# Altium footprint library Inductors SMD.PcbLib: 75 footprints (part 3 of 5)
Each footprint in its own frame and in the unit in brackets; x right, y up, seen from the top. Pads: shape width x height; smd on the part's side, far side on the other; paste and mask are expansions set on the pad; w line width, h text height; cw(c..) or ccw(c..) is an arc to the next point about the centre after c.
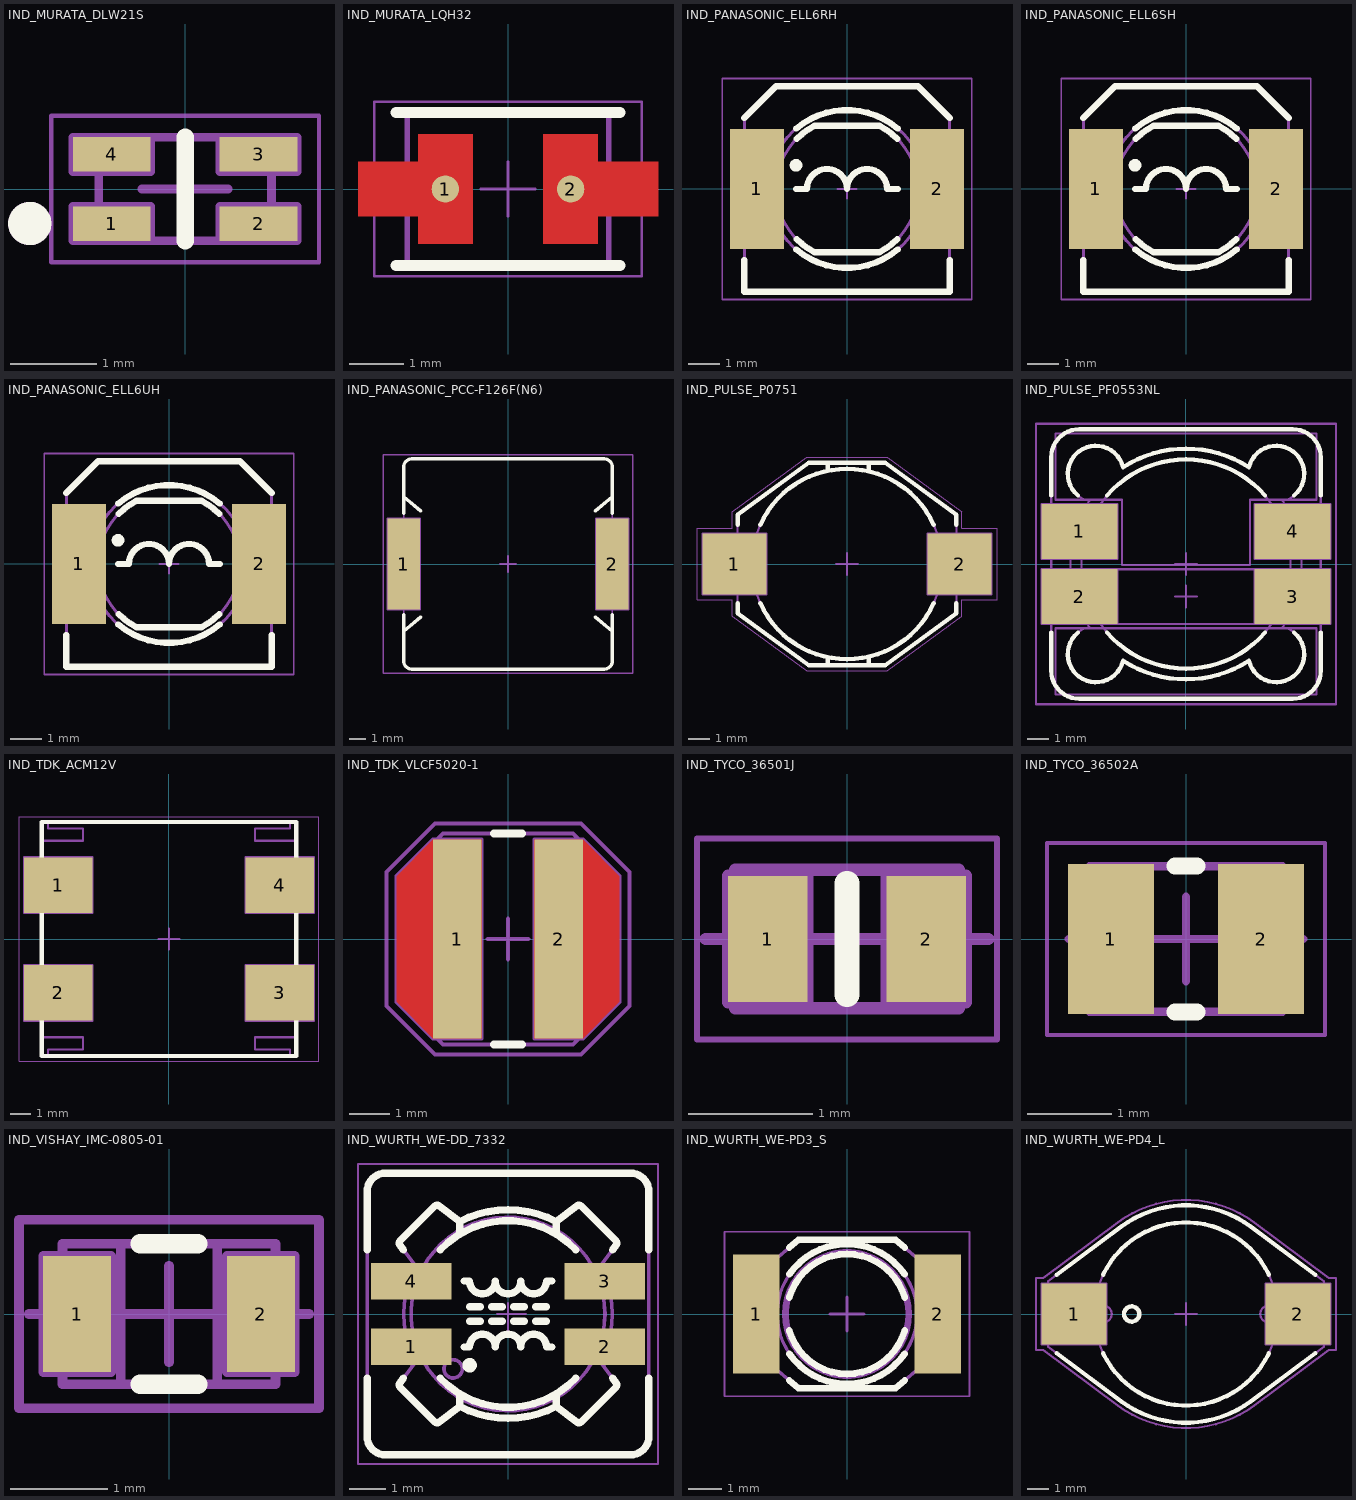
[diagram p2: the footprints below, top view; thin cyan lines are the x and y axes]

## IND_MURATA_DLW21S [mm] "Common Mode Choke Coil, DLW21S Series - Body 2 x 1.2mm"
height 1.4
pads (4):
  rect 0.9x0.4 smd: 1(-0.85,-0.4) 2(0.85,-0.4) 3(0.85,0.4) 4(-0.85,0.4)
Top Overlay:
  circle w0.25: c-1.8,-0.4 r0.125
  lines w0.2: 0,-0.6 0,0.6
Mechanical 8:
  lines w0.1: -0.5,0 0,0 ; 0,-0.5 0,0 ; 0,0.5 0,0 ; 0.5,0 0,0 ; -1.3,-0.6 -0.85,-0.4 -1.3,-0.2 ; -1.3,-0.6 -1.3,-0.2 ; -1.3,-0.6 -0.4,-0.6 -0.4,-0.2 -1.3,-0.2 ; -1.3,0.2 -0.85,0.4 -1.3,0.6 ; -1.3,0.2 -1.3,0.6 ; -1.3,0.2 -0.4,0.2 -0.4,0.6 -1.3,0.6 ; 1.3,-0.6 0.85,-0.4 1.3,-0.2 ; 1.3,-0.6 0.4,-0.6 0.4,-0.2 1.3,-0.2 ; 1.3,-0.6 1.3,-0.2 ; 1.3,-0.6 1.3,-0.2 ; 1.3,0.2 0.85,0.4 1.3,0.6 ; 1.3,0.2 0.4,0.2 0.4,0.6 1.3,0.6 ; 1.3,0.2 1.3,0.6 ; 1.3,0.2 1.3,0.6
Mechanical 14:
  circle w0.25: c-1.8,-0.4 r0.125
  lines w0.1: -1,-0.6 -1,0.6 1,0.6 1,-0.6 -1,-0.6
Mechanical 15:
  lines w0.05: -1.55,-0.85 -1.55,0.85 1.55,0.85 1.55,-0.85 -1.55,-0.85
3D body "IND_MURATA_DLW21S.stp": height 1.4, standoff 0, extent -1,-0.6 1,0.6

## IND_MURATA_LQH32 [mm] "Chip Inductor, 3.40mm L X 2.50mm W X 2.20mm H, MURATA LQH32 Serie"
height 2.2
pads (2):
  round 0.5 smd paste-0.26 mask-0.26: 1(-1.15,0) 2(1.15,0)
Top Layer:
  region: -2.75,-0.5 -1.65,-0.5 -1.65,-1 -0.65,-1 -0.65,1 -1.65,1 -1.65,0.5 -2.75,0.5
  region: 2.75,0.5 1.65,0.5 1.65,1 0.65,1 0.65,-1 1.65,-1 1.65,-0.5 2.75,-0.5
Top Overlay:
  lines w0.2: -2.05,-1.4 2.05,-1.4 ; -2.05,1.4 2.05,1.4
Mechanical 14:
  lines w0.1: -1.85,-1.35 1.85,-1.35 1.85,1.35 -1.85,1.35 -1.85,-1.35
Mechanical 15:
  lines w0.05: -0.5,0 0.5,0 ; 0,-0.5 0,0.5 ; -2.45,-1.6 2.45,-1.6 2.45,1.6 -2.45,1.6 -2.45,-1.6
3D body "IND_MURATA_LQH32.stp": height 2.2, standoff 0, extent -1.75,-1.25 1.75,1.25

## IND_PANASONIC_ELL6RH [mm] "SMD Choke Coil, Body 6.9x6.5mm"
height 2.8
pads (2):
  rect 1.7x3.8 smd: 1(-2.85,0) 2(2.85,0)
Top Overlay:
  circle w0.2: c-1.615,0.75 r0.1
  lines w0.2: -3.25,-2.25 -3.25,-3.25 3.25,-3.25 3.25,-2.25 ; -3.25,2.25 -2.25,3.25 2.25,3.25 3.25,2.25 ; -1.615,0 -1.27,0 cw(c-0.635,0) 0,0 cw(c0.635,0) 1.27,0 1.615,0 ; -1.607,-1.915 ccw(c0,0) 1.607,-1.915 ; -1.607,1.915 cw(c0,0) 1.607,1.915 ; -1.591,-1.591 ccw(c0,0) -1.031,-2 1.031,-2 ccw(c0,0) 1.591,-1.591 ; -1.591,1.591 cw(c0,0) -1.031,2 1.031,2 cw(c0,0) 1.591,1.591
Mechanical 14:
  circle w0.1: c0,0 r2.5
  lines w0.1: -3.25,-1.65 -3.45,-1.65 -3.45,1.65 -3.25,1.65 ; 3.25,-1.65 3.45,-1.65 3.45,1.65 3.25,1.65 ; -3.25,-3.25 -3.25,2.25 -2.25,3.25 2.25,3.25 3.25,2.25 3.25,-3.25 -3.25,-3.25 ; -1.031,-2 cw(c0,0) -1.031,2 1.031,2 cw(c0,0) 1.031,-2 -1.031,-2
Mechanical 15:
  lines w0.05: -0.3,0 0.3,0 ; 0,-0.3 0,0.3 ; -3.95,-3.5 -3.95,3.5 3.95,3.5 3.95,-3.5 -3.95,-3.5
3D body "IND_PANASONIC_ELL6RH.stp": height 2.8, standoff 0, extent -3.45,-3.25 3.45,3.25

## IND_PANASONIC_ELL6SH [mm] "SMD Choke Coil, Body 6.9x6.5mm"
height 3.3
pads (2):
  rect 1.7x3.8 smd: 1(-2.85,0) 2(2.85,0)
Top Overlay:
  circle w0.2: c-1.615,0.75 r0.1
  lines w0.2: -3.25,-2.25 -3.25,-3.25 3.25,-3.25 3.25,-2.25 ; -3.25,2.25 -2.25,3.25 2.25,3.25 3.25,2.25 ; -1.615,0 -1.27,0 cw(c-0.635,0) 0,0 cw(c0.635,0) 1.27,0 1.615,0 ; -1.607,-1.915 ccw(c0,0) 1.607,-1.915 ; -1.607,1.915 cw(c0,0) 1.607,1.915 ; -1.591,-1.591 ccw(c0,0) -1.031,-2 1.031,-2 ccw(c0,0) 1.591,-1.591 ; -1.591,1.591 cw(c0,0) -1.031,2 1.031,2 cw(c0,0) 1.591,1.591
Mechanical 14:
  circle w0.1: c0,0 r2.5
  lines w0.1: -3.25,-1.65 -3.45,-1.65 -3.45,1.65 -3.25,1.65 ; 3.25,-1.65 3.45,-1.65 3.45,1.65 3.25,1.65 ; -3.25,-3.25 -3.25,2.25 -2.25,3.25 2.25,3.25 3.25,2.25 3.25,-3.25 -3.25,-3.25 ; -1.031,-2 cw(c0,0) -1.031,2 1.031,2 cw(c0,0) 1.031,-2 -1.031,-2
Mechanical 15:
  lines w0.05: -0.3,0 0.3,0 ; 0,-0.3 0,0.3 ; -3.95,-3.5 -3.95,3.5 3.95,3.5 3.95,-3.5 -3.95,-3.5
3D body "IND_PANASONIC_ELL6SH.stp": height 3.3, standoff 0, extent -3.45,-3.25 3.45,3.25

## IND_PANASONIC_ELL6UH [mm] "SMD Choke Coil, Body 6.9x6.5mm"
height 5
pads (2):
  rect 1.7x3.8 smd: 1(-2.85,0) 2(2.85,0)
Top Overlay:
  circle w0.2: c-1.615,0.75 r0.1
  lines w0.2: -3.25,-2.25 -3.25,-3.25 3.25,-3.25 3.25,-2.25 ; -3.25,2.25 -2.25,3.25 2.25,3.25 3.25,2.25 ; -1.615,0 -1.27,0 cw(c-0.635,0) 0,0 cw(c0.635,0) 1.27,0 1.615,0 ; -1.607,-1.915 ccw(c0,0) 1.607,-1.915 ; -1.607,1.915 cw(c0,0) 1.607,1.915 ; -1.591,-1.591 ccw(c0,0) -1.031,-2 1.031,-2 ccw(c0,0) 1.591,-1.591 ; -1.591,1.591 cw(c0,0) -1.031,2 1.031,2 cw(c0,0) 1.591,1.591
Mechanical 14:
  circle w0.1: c0,0 r2.5
  lines w0.1: -3.25,-1.65 -3.45,-1.65 -3.45,1.65 -3.25,1.65 ; 3.25,-1.65 3.45,-1.65 3.45,1.65 3.25,1.65 ; -3.25,-3.25 3.25,-3.25 3.25,2.25 2.25,3.25 -2.25,3.25 -3.25,2.25 -3.25,-3.25 ; -1.031,-2 cw(c0,0) -1.031,2 1.031,2 cw(c0,0) 1.031,-2 -1.031,-2
Mechanical 15:
  lines w0.05: -0.3,0 0.3,0 ; 0,-0.3 0,0.3 ; -3.95,-3.5 3.95,-3.5 3.95,3.5 -3.95,3.5 -3.95,-3.5
3D body "IND_PANASONIC_ELL6UH.stp": height 5, standoff 0, extent -3.45,-3.25 3.45,3.25

## IND_PANASONIC_PCC-F126F(N6) [mm] "SMD Inductor  Body Width 12.5mm Body Lenght 12.5mm Height 5.7mm, PANASONIC PCC-F126(N6) Serie"
height 5.7
pads (2):
  rect 2x5.6 smd: 1(-6.4,0) 2(6.4,0)
Top Overlay:
  lines w0.2: -6.4,-4.125 -5.35,-3.25 ; -6.4,-3.1 -6.4,-5.95 ccw(c-5.9,-5.95) -5.9,-6.45 5.9,-6.45 ccw(c5.9,-5.95) 6.4,-5.95 6.4,-3.1 ; -6.4,3.1 -6.4,5.95 cw(c-5.9,5.95) -5.9,6.45 5.9,6.45 cw(c5.9,5.95) 6.4,5.95 6.4,3.1 ; -6.4,4.125 -5.35,3.25 ; 5.35,-3.25 6.4,-4.125 ; 5.35,3.25 6.4,4.125
Mechanical 8:
  lines w0.1: -6.9,0 -6.4,0 ; -6.4,-0.5 -6.4,0 ; -6.4,0.5 -6.4,0 ; -5.9,0 -6.4,0 ; -0.5,0 0,0 ; 0,-0.5 0,0 ; 0,0.5 0,0 ; 0.5,0 0,0 ; 5.9,0 6.4,0 ; 6.4,-0.5 6.4,0 ; 6.4,0.5 6.4,0 ; 6.9,0 6.4,0 ; -7.4,-2.8 -5.4,-2.8 -5.4,2.8 -7.4,2.8 -7.4,-2.8 ; 5.4,-2.8 7.4,-2.8 7.4,2.8 5.4,2.8 5.4,-2.8
Mechanical 14:
  lines w0.1: -6.4,-5.95 ccw(c-5.9,-5.95) -5.9,-6.45 5.9,-6.45 ccw(c5.9,-5.95) 6.4,-5.95 6.4,5.95 ccw(c5.9,5.95) 5.9,6.45 -5.9,6.45 ccw(c-5.9,5.95) -6.4,5.95 -6.4,-5.95
Mechanical 15:
  lines w0.1: -7.65,-6.7 -7.65,6.7 7.65,6.7 7.65,-6.7 -7.65,-6.7
3D body "IND_PANASONIC_PCC-F126F(N6).stp": height 5.7, standoff -0.3, extent -6.25,-6.25 6.25,6.25

## IND_PULSE_P0751 [mm] "SMD Power Inductor, Body Width 9.4mm Body Lenght 12.95mm Height 5.46mm, PULSE P0751/52NL Serie"
height 5.46
pads (2):
  rect 2.92x2.79 smd: 1(-5.145,0) 2(5.145,0)
Top Overlay:
  lines w0.2: -5,-1.795 -5,-2.25 -1.75,-4.625 1.75,-4.625 5,-2.25 5,-1.795 ; -5,1.795 -5,2.25 -1.75,4.625 1.75,4.625 5,2.25 5,1.795 ; -3.962,-1.795 ccw(c0,0) 3.962,-1.795 ; -3.962,1.795 cw(c0,0) 3.962,1.795 ; -0.886,-4.625 -0.886,-4.259 ; -0.886,4.259 -0.886,4.625 ; 0.999,-4.625 0.999,-4.234 ; 0.999,4.234 0.999,4.625
Mechanical 8:
  lines w0.1: -5.645,0 -5.145,0 ; -5.145,-0.5 -5.145,0 ; -5.145,0.5 -5.145,0 ; -4.645,0 -5.145,0 ; -0.5,0 0,0 ; 0,-0.5 0,0 ; 0,0.5 0,0 ; 0.5,0 0,0 ; 4.645,0 5.145,0 ; 5.145,-0.5 5.145,0 ; 5.145,0.5 5.145,0 ; 5.645,0 5.145,0 ; -6.605,-1.395 -6.605,1.395 -3.685,1.395 -3.685,-1.395 -6.605,-1.395 ; 3.685,-1.395 3.685,1.395 6.605,1.395 6.605,-1.395 3.685,-1.395
Mechanical 14:
  circle w0.1: c0,0 r4.35
  lines w0.1: -0.886,-4.625 -0.886,-4.259 ; -0.886,4.259 -0.886,4.625 ; 0.999,-4.625 0.999,-4.234 ; 0.999,4.234 0.999,4.625 ; -6.3,-1.25 -5,-1.25 -5,-2.25 -1.75,-4.625 1.75,-4.625 5,-2.25 5,-1.25 6.3,-1.25 6.3,1.25 5,1.25 5,2.25 1.75,4.625 -1.75,4.625 -5,2.25 -5,1.25 -6.3,1.25 -6.3,-1.25
Mechanical 15:
  lines w0.05: -6.855,-1.645 -6.855,1.645 -5.25,1.645 -5.25,2.377 -1.832,4.875 1.832,4.875 5.25,2.377 5.25,1.645 6.855,1.645 6.855,-1.645 5.25,-1.645 5.25,-2.377 1.832,-4.875 -1.832,-4.875 -5.25,-2.377 -5.25,-1.645 -6.855,-1.645
3D body "IND_PULSE_P0751.stp": height 4.75, standoff 0, extent -6.3,-4.625 6.3,4.625

## IND_PULSE_PF0553NL [mm] "SMD Power Inductor, Body Width 12.5mm Body Lenght 12.5mm Height 8mm, PULSE PF0553NL Serie"
height 8
pads (4):
  rect 3.53x2.54 smd: 1(-4.94,1.51) 2(-4.94,-1.51) 3(4.94,-1.51) 4(4.94,1.51)
Top Overlay:
  lines w0.2: -6.25,-3.18 -6.25,-4.95 ccw(c-4.95,-4.95) -4.95,-6.25 4.95,-6.25 ccw(c4.95,-4.95) 6.25,-4.95 6.25,-3.18 ; -6.25,3.18 -6.25,4.95 cw(c-4.95,4.95) -4.95,6.25 4.95,6.25 cw(c4.95,4.95) 6.25,4.95 6.25,3.18 ; -5.01,-3.18 ccw(c-4.182,-4.183) -2.918,-4.484 ccw(c0,0) 2.918,-4.484 ccw(c4.183,-4.183) 5.01,-3.18 ; -5.01,3.18 cw(c-4.182,4.183) -2.918,4.484 cw(c0,0) 2.918,4.484 cw(c4.183,4.183) 5.01,3.18 ; -3.662,-3.18 ccw(c0,0) 3.662,-3.18 ; -3.662,3.18 cw(c0,0) 3.662,3.18
Mechanical 8:
  lines w0.1: -5.44,-1.51 -4.94,-1.51 ; -5.44,1.51 -4.94,1.51 ; -4.94,-2.01 -4.94,-1.51 ; -4.94,-1.01 -4.94,-1.51 ; -4.94,1.01 -4.94,1.51 ; -4.94,2.01 -4.94,1.51 ; -4.44,-1.51 -4.94,-1.51 ; -4.44,1.51 -4.94,1.51 ; -0.5,-1.51 0,-1.51 ; -0.5,0 0,0 ; 0,-2.01 0,-1.51 ; 0,-1.01 0,-1.51 ; 0,-0.5 0,0 ; 0,0.5 0,0 ; 0.5,-1.51 0,-1.51 ; 0.5,0 0,0 ; 4.44,-1.51 4.94,-1.51 ; 4.44,1.51 4.94,1.51 ; 4.94,-2.01 4.94,-1.51 ; 4.94,-1.01 4.94,-1.51 ; 4.94,1.01 4.94,1.51 ; 4.94,2.01 4.94,1.51 ; 5.44,-1.51 4.94,-1.51 ; 5.44,1.51 4.94,1.51 ; -3.175,-2.78 -6.705,-2.78 -6.705,-0.24 -3.175,-0.24 ; -3.175,-2.78 -3.175,-0.24 ; -3.175,-2.78 3.175,-2.78 ; -3.175,-0.24 3.175,-0.24 ; 3.175,-2.78 6.705,-2.78 6.705,-0.24 3.175,-0.24 ; 3.175,-2.78 3.175,-0.24 ; -6.705,0.24 -3.175,0.24 -3.175,2.78 -6.705,2.78 -6.705,0.24 ; -6.05,-6.05 6.05,-6.05 6.05,-2.98 -6.05,-2.98 -6.05,-6.05 ; -6.05,2.98 -2.975,2.98 -2.975,-0.04 2.975,-0.04 2.975,2.98 6.05,2.98 6.05,6.05 -6.05,6.05 -6.05,2.98 ; 3.175,0.24 6.705,0.24 6.705,2.78 3.175,2.78 3.175,0.24
Mechanical 14:
  circle w0.1: c0,0 r4.85
  lines w0.1: -6.25,-4.95 ccw(c-4.95,-4.95) -4.95,-6.25 4.95,-6.25 ccw(c4.95,-4.95) 6.25,-4.95 6.25,4.95 ccw(c4.95,4.95) 4.95,6.25 -4.95,6.25 ccw(c-4.95,4.95) -6.25,4.95 -6.25,-4.95 ; -4.484,-2.918 cw(c0,0) -4.484,2.918 cw(c-4.182,4.183) -2.918,4.484 cw(c0,0) 2.918,4.484 cw(c4.183,4.183) 4.484,2.918 cw(c0,0) 4.484,-2.918 cw(c4.183,-4.183) 2.918,-4.484 cw(c0,0) -2.918,-4.484 cw(c-4.182,-4.183) -4.484,-2.918
Mechanical 15:
  lines w0.1: -6.955,-6.5 -6.955,6.5 6.955,6.5 6.955,-6.5 -6.955,-6.5
3D body "IND_PULSE_PF0553NL.stp": height 8, standoff 0, extent -6.25,-6.315 6.25,6.315

## IND_TDK_ACM12V [mm] "Common Mode Filters For Automotive Power Line, 12mm L X 11mm W X 6mm H, TDK ACM70V Serie"
height 6
pads (4):
  rect 3.3x2.7 smd: 1(-5.35,2.6) 2(-5.35,-2.6) 3(5.35,-2.6) 4(5.35,2.6)
Top Overlay:
  lines w0.2: -6.15,-5.65 -6.15,5.65 6.15,5.65 6.15,-5.65 -6.15,-5.65
Mechanical 8:
  lines w0.1: -5.85,-2.6 -5.35,-2.6 ; -5.85,2.6 -5.35,2.6 ; -5.35,-3.1 -5.35,-2.6 ; -5.35,-2.1 -5.35,-2.6 ; -5.35,2.1 -5.35,2.6 ; -5.35,3.1 -5.35,2.6 ; -4.85,-2.6 -5.35,-2.6 ; -4.85,2.6 -5.35,2.6 ; -0.5,0 0,0 ; 0,-0.5 0,0 ; 0,0.5 0,0 ; 0.5,0 0,0 ; 4.85,-2.6 5.35,-2.6 ; 4.85,2.6 5.35,2.6 ; 5.35,-3.1 5.35,-2.6 ; 5.35,-2.1 5.35,-2.6 ; 5.35,2.1 5.35,2.6 ; 5.35,3.1 5.35,2.6 ; 5.85,-2.6 5.35,-2.6 ; 5.85,2.6 5.35,2.6 ; -7,-3.95 -7,-1.25 -3.7,-1.25 -3.7,-3.95 -7,-3.95 ; -7,1.25 -7,3.95 -3.7,3.95 -3.7,1.25 -7,1.25 ; 3.7,-3.95 3.7,-1.25 7,-1.25 7,-3.95 3.7,-3.95 ; 3.7,1.25 3.7,3.95 7,3.95 7,1.25 3.7,1.25
Mechanical 14:
  lines w0.1: -6.15,-4.75 -4.15,-4.75 -4.15,-5.35 -5.85,-5.35 -5.85,-5.65 5.85,-5.65 5.85,-5.35 4.15,-5.35 4.15,-4.75 6.15,-4.75 6.15,4.75 4.15,4.75 4.15,5.35 5.85,5.35 5.85,5.65 -5.85,5.65 -5.85,5.35 -4.15,5.35 -4.15,4.75 -6.15,4.75 -6.15,-4.75
Mechanical 15:
  lines w0.05: -7.25,-5.9 -7.25,5.9 7.25,5.9 7.25,-5.9 -7.25,-5.9
3D body "IND_TDK_ACM12V.stp": height 6, standoff 0, extent -6.15,-5.65 6.15,5.65

## IND_TDK_VLCF5020-1 [mm] "SMD Inductor, 5mm L X 5mm W X 2mm H, TDK VLCF5020-1 Case"
height 2
pads (2):
  rect 1.2x4.9 smd: 1(-1.25,0) 2(1.25,0)
Top Layer:
  region: -2.75,-1.55 -1.85,-2.45 -0.65,-2.45 -0.65,2.45 -1.85,2.45 -2.75,1.55
  region: 2.75,1.55 1.85,2.45 0.65,2.45 0.65,-2.45 1.85,-2.45 2.75,-1.55
Top Overlay:
  lines w0.2: -0.35,-2.6 0.35,-2.6 ; -0.35,2.6 0.35,2.6
Top Paste:
  region: -2.75,-1.55 -1.85,-2.45 -0.65,-2.45 -0.65,2.45 -1.85,2.45 -2.75,1.55
  region: 2.75,1.55 1.85,2.45 0.65,2.45 0.65,-2.45 1.85,-2.45 2.75,-1.55
Top Solder:
  region: 2.85,1.591 1.891,2.55 0.55,2.55 0.55,-2.55 1.891,-2.55 2.85,-1.591
  region: -2.85,-1.591 -1.891,-2.55 -0.55,-2.55 -0.55,2.55 -1.891,2.55 -2.85,1.591
Mechanical 8:
  lines w0.1: -2.2,0 -1.7,0 ; -1.7,-0.5 -1.7,0 ; -1.7,0.5 -1.7,0 ; -1.25,-0.5 -1.25,0 ; -1.25,0.5 -1.25,0 ; -0.75,0 -1.25,0 ; -0.5,0 0,0 ; 0,-0.5 0,0 ; 0,0.5 0,0 ; 0.5,0 0,0 ; 0.75,0 1.25,0 ; 1.25,-0.5 1.25,0 ; 1.25,0.5 1.25,0 ; 1.7,-0.5 1.7,0 ; 1.7,0.5 1.7,0 ; 2.2,0 1.7,0 ; -2.75,-1.55 -2.75,1.55 -1.85,2.45 -0.65,2.45 -0.65,-2.45 -1.85,-2.45 -2.75,-1.55 ; 0.65,-2.45 0.65,2.45 1.85,2.45 2.75,1.55 2.75,-1.55 1.85,-2.45 0.65,-2.45
Mechanical 14:
  lines w0.1: -2.6,-1.6 -1.6,-2.6 1.6,-2.6 2.6,-1.6 2.6,1.6 1.6,2.6 -1.6,2.6 -2.6,1.6 -2.6,-1.6
Mechanical 15:
  lines w0.1: -3,-1.654 -3,1.654 -1.804,2.85 1.804,2.85 3,1.654 3,-1.654 1.804,-2.85 -1.804,-2.85 -3,-1.654
3D body "IND_TDK_VLCF5020-1.stp": height 2, standoff 0, extent -2.6,-2.6 2.6,2.6

## IND_TYCO_36501J [mm] "Chip Inductor, 2-Leads, Body 108 x 1.12mm, TYCO 3650J Serie"
height 1.02
pads (2):
  rect 0.64x1.02 smd: 1(-0.64,0) 2(0.64,0)
Top Overlay:
  lines w0.2: 0,-0.45 0,0.45
Mechanical 8:
  lines w0.1: -1.14,0 -0.64,0 ; -0.64,-0.5 -0.64,0 ; -0.64,0.5 -0.64,0 ; -0.5,0 0,0 ; 0,-0.5 0,0 ; 0,0.5 0,0 ; 0.5,0 0,0 ; 0.64,-0.5 0.64,0 ; 0.64,0.5 0.64,0 ; 1.14,0 0.64,0 ; -0.96,-0.51 -0.96,0.51 -0.32,0.51 -0.32,-0.51 -0.96,-0.51 ; 0.32,-0.51 0.32,0.51 0.96,0.51 0.96,-0.51 0.32,-0.51
Mechanical 14:
  lines w0.1: -0.9,-0.56 0.9,-0.56 0.9,0.56 -0.9,0.56 -0.9,-0.56
Mechanical 15:
  lines w0.05: -1.21,-0.81 -1.21,0.81 1.21,0.81 1.21,-0.81 -1.21,-0.81
3D body "IND_TYCO_36501J.stp": height 1.02, standoff 0, extent -0.9,-0.56 0.9,0.56

## IND_TYCO_36502A [mm] "Chip Inductor, 2-Leads, EIA 0805, Metric 2012, Body L 2.29 x W 1.73mm x H 1.52mm"
height 1.52
pads (2):
  rect 1.02x1.78 smd: 1(-0.89,0) 2(0.89,0)
Top Overlay:
  lines w0.2: -0.13,-0.865 0.13,-0.865 ; -0.13,0.865 0.13,0.865
Mechanical 8:
  lines w0.1: -1.39,0 -0.89,0 ; -0.89,-0.5 -0.89,0 ; -0.89,0.5 -0.89,0 ; 0.89,-0.5 0.89,0 ; 0.89,0.5 0.89,0 ; 1.39,0 0.89,0 ; 0,0 -0.5,0 0,0 ; 0,0 0,-0.5 0,0 ; 0,0 0.5,0 0,0 ; 0,0 0,0.5 0,0
Mechanical 14:
  lines w0.1: -1.145,-0.865 -1.145,0.865 1.145,0.865 1.145,-0.865 -1.145,-0.865
Mechanical 15:
  lines w0.05: -1.65,-1.14 -1.65,1.14 1.65,1.14 1.65,-1.14 -1.65,-1.14
3D body "IND_TYCO_36502A.stp": height 1.52, standoff 0, extent -1.145,-0.865 1.145,0.865

## IND_VISHAY_IMC-0805-01 [mm] "Chip Inductor, EIA 0805, Metric 2012, Body 2.0x1.25mm"
height 1.4
pads (2):
  rect 0.7x1.2 smd: 1(-0.95,0) 2(0.95,0)
Top Overlay:
  lines w0.2: -0.3,-0.725 0.3,-0.725 ; -0.3,0.725 0.3,0.725
Mechanical 8:
  lines w0.1: -1.45,0 -0.95,0 ; -0.95,-0.5 -0.95,0 ; -0.95,0.5 -0.95,0 ; -0.5,0 0,0 ; 0,-0.5 0,0 ; 0,0.5 0,0 ; 0.5,0 0,0 ; 0.95,-0.5 0.95,0 ; 0.95,0.5 0.95,0 ; 1.45,0 0.95,0 ; -1.3,-0.6 -0.6,-0.6 -0.6,0.6 -1.3,0.6 -1.3,-0.6 ; 0.6,-0.6 0.6,0.6 1.3,0.6 1.3,-0.6 0.6,-0.6
Mechanical 14:
  lines w0.1: -0.5,-0.725 -0.5,0.725 ; 0.5,-0.725 0.5,0.725 ; -1.1,-0.725 1.1,-0.725 1.1,0.725 -1.1,0.725 -1.1,-0.725
Mechanical 15:
  lines w0.1: -1.55,-0.975 1.55,-0.975 1.55,0.975 -1.55,0.975 -1.55,-0.975
3D body "IND_VISHAY_IMC-0805-01.stp": height 1.4, standoff 0, extent -1.1,-0.725 1.1,0.725

## IND_WURTH_WE-DD_7332 [mm] "Power Choke, WE-DD Serie, Body 7.7x7.7mm"
height 4
pads (4):
  rect 2.2x1 smd: 1(-2.65,-0.9) 2(2.65,-0.9) 3(2.65,0.9) 4(-2.65,0.9)
Top Overlay:
  circle w0.2: c-1.05,-1.4 r0.1
  lines w0.2: -3.85,-1.75 -3.85,-3.35 ccw(c-3.35,-3.35) -3.35,-3.85 3.35,-3.85 ccw(c3.35,-3.35) 3.85,-3.35 3.85,-1.75 ; -3.85,1.75 -3.85,3.35 cw(c-3.35,3.35) -3.35,3.85 3.35,3.85 cw(c3.35,3.35) 3.85,3.35 3.85,1.75 ; -2.855,-1.75 -2.951,-1.875 ccw(c-2.872,-1.936) -2.943,-2.007 -2.007,-2.943 ccw(c-1.936,-2.872) -1.875,-2.951 -1.322,-2.525 ; -2.855,1.75 -2.951,1.875 cw(c-2.872,1.936) -2.943,2.007 -2.007,2.943 cw(c-1.936,2.872) -1.875,2.951 -1.322,2.525 ; -1.855,-1.75 ccw(c0,0) 1.855,-1.75 ; -1.855,1.75 cw(c0,0) 1.855,1.75 ; -1.322,-2.18 -1.322,-2.525 ; -1.322,2.18 -1.322,2.525 ; -1.2,-0.9 -1.05,-0.9 cw(c-0.7,-0.9) -0.35,-0.9 cw(c0,-0.9) 0.35,-0.9 cw(c0.7,-0.9) 1.05,-0.9 1.2,-0.9 ; -1.2,0.9 -1.05,0.9 ccw(c-0.7,0.9) -0.35,0.9 ccw(c0,0.9) 0.35,0.9 ccw(c0.7,0.9) 1.05,0.9 1.2,0.9 ; -1.05,-0.2 -0.75,-0.2 ; -1.05,0.2 -0.75,0.2 ; -0.45,-0.2 -0.15,-0.2 ; -0.45,0.2 -0.15,0.2 ; 0.15,-0.2 0.45,-0.2 ; 0.15,0.2 0.45,0.2 ; 0.75,-0.2 1.05,-0.2 ; 0.75,0.2 1.05,0.2 ; 1.322,-2.18 1.322,-2.525 ; 1.322,2.18 1.322,2.525 ; 2.855,-1.75 2.951,-1.875 cw(c2.872,-1.936) 2.943,-2.007 2.007,-2.943 cw(c1.936,-2.872) 1.875,-2.951 1.322,-2.525 ; 2.855,1.75 2.951,1.875 ccw(c2.872,1.936) 2.943,2.007 2.007,2.943 ccw(c1.936,2.872) 1.875,2.951 1.322,2.525 ; -1.322,-2.525 ccw(c0,0) 1.322,-2.525 ; -1.322,2.525 cw(c0,0) 1.322,2.525
Mechanical 8:
  lines w0.05: -2.65,-1.4 -2.65,-0.9 -2.15,-0.9 ; -2.65,0.4 -2.65,0.9 -2.15,0.9 ; 0,-0.5 0,0 0.5,0 ; 2.65,-1.4 2.65,-0.9 3.15,-0.9 ; 2.65,0.4 2.65,0.9 3.15,0.9
Mechanical 14:
  circle w0.1: c0,0 r2.65
  circle w0.1: c-1.5,-1.5 r0.25
  lines w0.1: -2.296,-1.322 -2.525,-1.322 ; -2.296,1.322 -2.525,1.322 ; -1.322,-2.296 -1.322,-2.525 ; -1.322,2.296 -1.322,2.525 ; -1.2,-0.9 -1.05,-0.9 cw(c-0.7,-0.9) -0.35,-0.9 cw(c0,-0.9) 0.35,-0.9 cw(c0.7,-0.9) 1.05,-0.9 1.2,-0.9 ; -1.2,0.9 -1.05,0.9 ccw(c-0.7,0.9) -0.35,0.9 ccw(c0,0.9) 0.35,0.9 ccw(c0.7,0.9) 1.05,0.9 1.2,0.9 ; -1.05,-0.2 -0.75,-0.2 ; -1.05,0.2 -0.75,0.2 ; -0.45,-0.2 -0.15,-0.2 ; -0.45,0.2 -0.15,0.2 ; 0.15,-0.2 0.45,-0.2 ; 0.15,0.2 0.45,0.2 ; 0.75,-0.2 1.05,-0.2 ; 0.75,0.2 1.05,0.2 ; 1.322,-2.296 1.322,-2.525 ; 1.322,2.296 1.322,2.525 ; 2.296,-1.322 2.525,-1.322 ; 2.296,1.322 2.525,1.322 ; -2.525,-1.322 cw(c0,0) -2.525,1.322 ; -2.525,-1.322 -2.951,-1.875 ccw(c-2.872,-1.936) -2.943,-2.007 -2.007,-2.943 ccw(c-1.936,-2.872) -1.875,-2.951 -1.322,-2.525 ; -2.525,1.322 -2.951,1.875 cw(c-2.872,1.936) -2.943,2.007 -2.007,2.943 cw(c-1.936,2.872) -1.875,2.951 -1.322,2.525 ; -1.322,-2.525 ccw(c0,0) 1.322,-2.525 ; -1.322,2.525 cw(c0,0) 1.322,2.525 ; 1.322,-2.525 1.875,-2.951 ccw(c1.936,-2.872) 2.007,-2.943 2.943,-2.007 ccw(c2.872,-1.936) 2.951,-1.875 2.525,-1.322 ; 1.322,2.525 1.875,2.951 cw(c1.936,2.872) 2.007,2.943 2.943,2.007 cw(c2.872,1.936) 2.951,1.875 2.525,1.322 ; 2.525,-1.322 ccw(c0,0) 2.525,1.322 ; -3.85,-3.35 ccw(c-3.35,-3.35) -3.35,-3.85 3.35,-3.85 ccw(c3.35,-3.35) 3.85,-3.35 3.85,3.35 ccw(c3.35,3.35) 3.35,3.85 -3.35,3.85 ccw(c-3.35,3.35) -3.85,3.35 -3.85,-3.35
Mechanical 15:
  lines w0.05: -0.3,0 0.3,0 ; 0,-0.3 0,0.3 ; -4.1,-4.1 -4.1,4.1 4.1,4.1 4.1,-4.1 -4.1,-4.1
3D body "IND_WURTH_WE-DD-7332.stp": height 4, standoff 0, extent -3.65,-3.65 3.65,3.65

## IND_WURTH_WE-PD3_S [mm] "SMD Power Choke, Width 4.45mm Body Lenght 6.6mm Height 2.92mm, WURTH WE-PD3 Serie"
height 2.92
pads (2):
  rect 1.4x3.56 smd: 1(-2.725,0) 2(2.725,0)
Top Overlay:
  lines w0.2: -1.73,-1.993 -1.462,-2.225 1.462,-2.225 1.73,-1.993 ; -1.73,-1.19 ccw(c0,0) 1.73,-1.19 ; -1.73,-0.497 ccw(c0,0) 1.73,-0.497 ; -1.73,0.497 cw(c0,0) 1.73,0.497 ; -1.73,1.19 cw(c0,0) 1.73,1.19 ; -1.73,1.993 -1.462,2.225 1.462,2.225 1.73,1.993
Mechanical 8:
  lines w0.1: -3.23,0 -2.73,0 ; -2.73,-0.5 -2.73,0 ; -2.73,0.5 -2.73,0 ; -2.23,0 -2.73,0 ; -0.5,0 0,0 ; 0,-0.5 0,0 ; 0,0.5 0,0 ; 0.5,0 0,0 ; 2.23,0 2.73,0 ; 2.73,-0.5 2.73,0 ; 2.73,0.5 2.73,0 ; 3.23,0 2.73,0
Mechanical 14:
  circle w0.1: c0,0 r1.8
  circle w0.1: c0,0 r1.9
  circle w0.1: c0,0 r2.1
  lines w0.1: -2.3,-1.5 -1.462,-2.225 1.462,-2.225 2.3,-1.5 ; -2.3,-1.5 -2.3,1.5 ; -2.3,-1.5 -3.3,-0.635 -3.3,0.635 -2.3,1.5 ; -2.3,1.5 -1.462,2.225 1.462,2.225 2.3,1.5 ; 2.3,-1.5 3.3,-0.635 3.3,0.635 2.3,1.5 ; 2.3,-1.5 2.3,1.5
Mechanical 15:
  lines w0.05: -3.68,-2.475 3.68,-2.475 3.68,2.475 -3.68,2.475 -3.68,-2.475
3D body "IND_WURTH_WE-PD3-S.stp": height 2.92, standoff 0, extent -3.3,-2.225 3.3,2.225

## IND_WURTH_WE-PD4_L [mm] "SMD Power Choke, Width 10mm Body Lenght 12.7mm Height 5.3mm, WURTH WE-PD 4 Serie Type L"
height 5.3
pads (2):
  rect 3x2.8 smd: 1(-5.15,0) 2(5.15,0)
Top Overlay:
  circle w0.2: c-2.5,0 r0.35
  lines w0.2: -5.948,-1.8 -2.99,-4.007 ccw(c0,0) 2.99,-4.007 5.948,-1.8 ; -5.948,1.8 -2.99,4.007 cw(c0,0) 2.99,4.007 5.948,1.8 ; -3.811,-1.8 ccw(c0,0) 3.811,-1.8 ; -3.811,1.8 cw(c0,0) 3.811,1.8
Mechanical 8:
  lines w0.1: -5.65,0 -5.15,0 ; -5.15,-0.5 -5.15,0 ; -5.15,0.5 -5.15,0 ; -4.65,0 -5.15,0 ; -0.5,0 0,0 ; 0,-0.5 0,0 ; 0,0.5 0,0 ; 0.5,0 0,0 ; 4.65,0 5.15,0 ; 5.15,-0.5 5.15,0 ; 5.15,0.5 5.15,0 ; 5.65,0 5.15,0 ; -6.65,-1.4 -6.65,1.4 -3.65,1.4 -3.65,-1.4 -6.65,-1.4 ; 3.65,-1.4 3.65,1.4 6.65,1.4 6.65,-1.4 3.65,-1.4
Mechanical 14:
  circle w0.1: c0,0 r4.215
  circle w0.1: c-2.5,0 r0.35
  lines w0.1: -6.2,-1 -6.2,1 ; -4.196,-0.4 -3.815,-0.4 ccw(c-3.815,0) -3.815,0.4 -4.196,0.4 ; -4.095,-1 -6.35,-1 -6.35,-1.5 -2.99,-4.007 ccw(c0,0) 2.99,-4.007 6.35,-1.5 6.35,-1 4.095,-1 ; -4.095,1 -6.35,1 -6.35,1.5 -2.99,4.007 cw(c0,0) 2.99,4.007 6.35,1.5 6.35,1 4.095,1 ; 4.196,-0.4 3.815,-0.4 cw(c3.815,0) 3.815,0.4 4.196,0.4 ; 6.2,-1 6.2,1
Mechanical 15:
  lines w0.1: -6.9,-1.65 -6.9,1.65 -6.567,1.65 -3.14,4.208 cw(c0,0) 3.14,4.208 6.567,1.65 6.9,1.65 6.9,-1.65 6.567,-1.65 3.14,-4.208 cw(c0,0) -3.14,-4.208 -6.567,-1.65 -6.9,-1.65
3D body "IND_WURTH_WE-PD4-L.stp": height 5, standoff 0, extent -6.35,-4.991 6.35,4.992